# Altium integrated library NXP Semiconductors Standard MOSFETs.IntLib: 477 symbols (part 3 of 14)
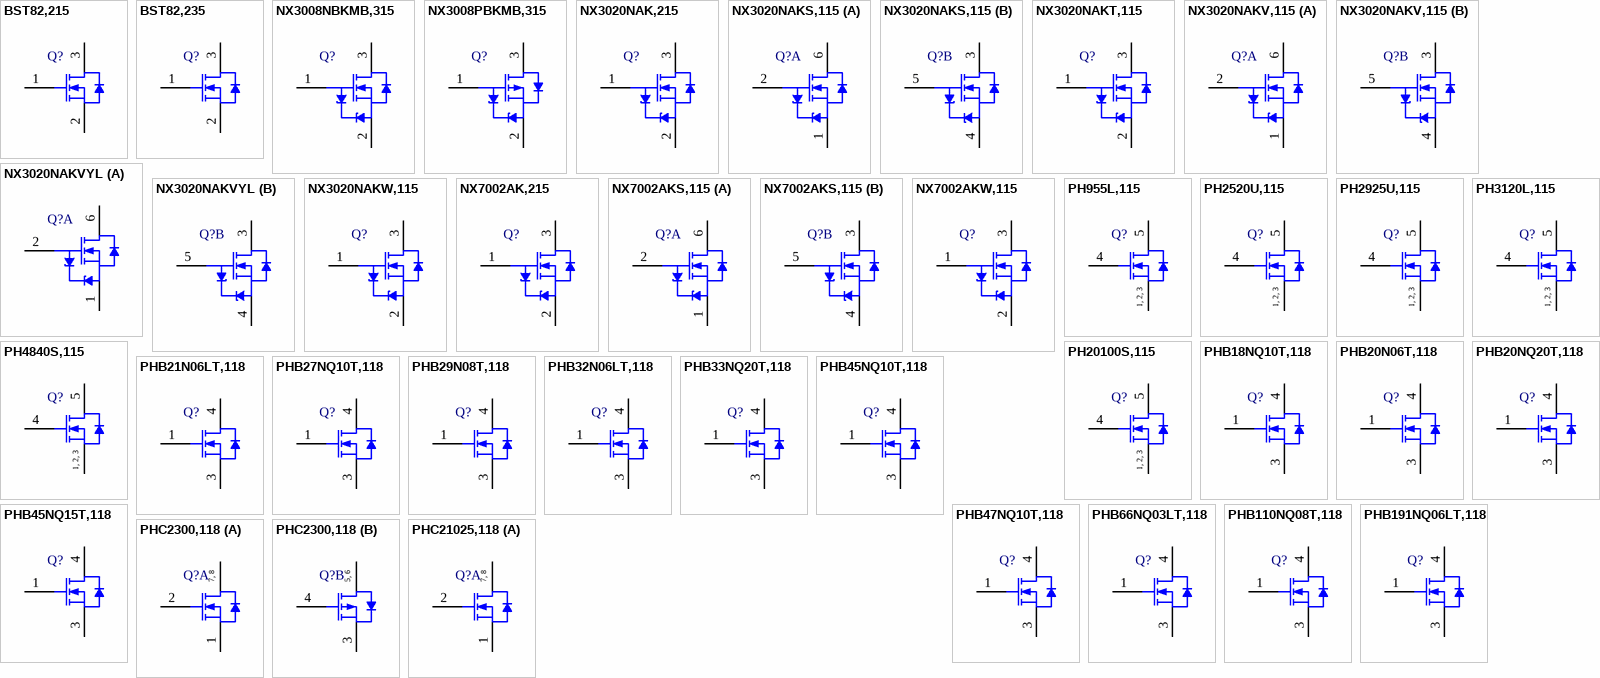
[diagram p14: symbols BST82,215 to PHC21025,118]

## PHB29N08T,118
designator Q?
N-Channel TrenchMOS Standard Level FET, 75 V, 27 A, 3-Pin SOT404, Tape and Reel; Manufacturer: NXP Semiconductors; PartNumber: PHB29N08T,118; Channel Type: N; Ciss [typ] (pF): 810; Coss [typ] (pF): 140; ID [max] (A): 27; Packing: Tape & Reel; Qr [typ] (nC): 65; VDS [max] (V): 75; VGSth [typ] (V): 4; DatasheetVersion: Rev. 03; PackageVersion: 13-02-25, 02/2013; PackageReference: SOT404; PackageDescription: 3-Pin Plastic Single-ended Surface Mounted Package, Body 10 x 9.6 mm, Pitch 2.54 mm; Supplier 1: Digi-Key; Supplier Part Number 1: 568-2190-2-ND; Supplier 2: Digi-Key; Supplier Part Number 2: 568-2190-1-ND; Supplier 3: Digi-Key; Supplier Part Number 3: 568-2190-6-ND; Supplier 4: Mouser; Supplier Part Number 4: 771-PHB29N08T/T3; Mounting Technology: Surface Mount; ComponentLink1Description: Manufacturer URL; ComponentLink1URL: http://www.nxp.com/; ComponentLink2Description: Datasheet; ComponentLink2URL: http://www.nxp.com/documents/data_sheet/PHB29N08T.pdf; ComponentLink3Description: Package Specification; ComponentLink3URL: http://www.nxp.com/documents/outline_drawing/sot404_po.pdf
footprint NXP-SOT404_N (DPAK, 3-Leads, Body 10.3x9.8mm, Pitch 2.54mm, IPC Medium Density)
footprint NXP-SOT404_L (DPAK, 3-Leads, Body 10.3x9.8mm, Pitch 2.54mm, IPC High Density)
footprint NXP-SOT404_M (DPAK, 3-Leads, Body 10.3x9.8mm, Pitch 2.54mm, IPC Low Density)
pins: 1 G "gate", 3 S "source", 4 D "mounting base; connected to drain"

## PHB32N06LT,118
designator Q?
N-Channel TrenchMOS Logic Level FET, 60 V, 34 A, 3-Pin SOT404, Tape and Reel; Manufacturer: NXP Semiconductors; PartNumber: PHB32N06LT,118; Channel Type: N; Ciss [typ] (pF): 920; Coss [typ] (pF): 160; ID [max] (A): 34; Packing: Tape & Reel; Qr [typ] (nC): 70; VDS [max] (V): 60; VGSth [typ] (V): 1.5; DatasheetVersion: Rev. 02; PackageVersion: 13-02-25, 02/2013; PackageReference: SOT404; PackageDescription: 3-Pin Plastic Single-ended Surface Mounted Package, Body 10 x 9.6 mm, Pitch 2.54 mm; Supplier 1: Digi-Key; Supplier Part Number 1: 568-5941-2-ND; Supplier 2: Digi-Key; Supplier Part Number 2: 568-5941-1-ND; Supplier 3: Digi-Key; Supplier Part Number 3: 568-5941-6-ND; Supplier 4: Newark; Supplier Part Number 4: 70R7406; Supplier 5: Mouser; Supplier Part Number 5: 771-PHB32N06LT118; Mounting Technology: Surface Mount; ComponentLink1Description: Manufacturer URL; ComponentLink1URL: http://www.nxp.com/; ComponentLink2Description: Datasheet; ComponentLink2URL: http://www.nxp.com/documents/data_sheet/PHB32N06LT.pdf; ComponentLink3Description: Package Specification; ComponentLink3URL: http://www.nxp.com/documents/outline_drawing/sot404_po.pdf
footprint NXP-SOT404_N (DPAK, 3-Leads, Body 10.3x9.8mm, Pitch 2.54mm, IPC Medium Density)
footprint NXP-SOT404_L (DPAK, 3-Leads, Body 10.3x9.8mm, Pitch 2.54mm, IPC High Density)
footprint NXP-SOT404_M (DPAK, 3-Leads, Body 10.3x9.8mm, Pitch 2.54mm, IPC Low Density)
pins: 1 G "gate", 3 S "source", 4 D "mounting base; connected to drain"

## PHB33NQ20T,118
designator Q?
N-Channel TrenchMOS Standard Level FET, 200 V, 32.7 A, 3-Pin SOT404, Tape and Reel; Manufacturer: NXP Semiconductors; PartNumber: PHB33NQ20T,118; Channel Type: N; Ciss [typ] (pF): 1870; Coss [typ] (pF): 230; ID [max] (A): 32.7; Packing: Tape & Reel; Qr [typ] (nC): 645; VDS [max] (V): 200; VGSth [typ] (V): 3; DatasheetVersion: Rev. 02; PackageVersion: 13-02-25, 02/2013; PackageReference: SOT404; PackageDescription: 3-Pin Plastic Single-ended Surface Mounted Package, Body 10 x 9.6 mm, Pitch 2.54 mm; Supplier 1: Digi-Key; Supplier Part Number 1: 568-5942-2-ND; Supplier 2: Digi-Key; Supplier Part Number 2: 568-5942-1-ND; Supplier 3: Digi-Key; Supplier Part Number 3: 568-5942-6-ND; Supplier 4: Mouser; Supplier Part Number 4: 771-PHB33NQ20T118; Mounting Technology: Surface Mount; ComponentLink1Description: Manufacturer URL; ComponentLink1URL: http://www.nxp.com/; ComponentLink2Description: Datasheet; ComponentLink2URL: http://www.nxp.com/documents/data_sheet/PHB33NQ20T.pdf; ComponentLink3Description: Package Specification; ComponentLink3URL: http://www.nxp.com/documents/outline_drawing/sot404_po.pdf
footprint NXP-SOT404_N (DPAK, 3-Leads, Body 10.3x9.8mm, Pitch 2.54mm, IPC Medium Density)
footprint NXP-SOT404_L (DPAK, 3-Leads, Body 10.3x9.8mm, Pitch 2.54mm, IPC High Density)
footprint NXP-SOT404_M (DPAK, 3-Leads, Body 10.3x9.8mm, Pitch 2.54mm, IPC Low Density)
pins: 1 G "gate", 3 S "source", 4 D "mounting base; connected to drain"

## PHB45NQ10T,118
designator Q?
N-Channel TrenchMOS Standard Level FET, 100 V, 47 A, 3-Pin SOT404, Tape and Reel; Manufacturer: NXP Semiconductors; PartNumber: PHB45NQ10T,118; Channel Type: N; Ciss [typ] (pF): 2600; Coss [typ] (pF): 340; ID [max] (A): 47; Packing: Tape & Reel; Qr [typ] (nC): 260; VDS [max] (V): 100; VGSth [typ] (V): 3; DatasheetVersion: Rev. 02; PackageVersion: 13-02-25, 02/2013; PackageReference: SOT404; PackageDescription: 3-Pin Plastic Single-ended Surface Mounted Package, Body 10 x 9.6 mm, Pitch 2.54 mm; Supplier 1: Digi-Key; Supplier Part Number 1: 568-5943-2-ND; Supplier 2: Digi-Key; Supplier Part Number 2: 568-5943-1-ND; Supplier 3: Digi-Key; Supplier Part Number 3: 568-5943-6-ND; Supplier 4: Mouser; Supplier Part Number 4: 771-PHB45NQ10T118; Mounting Technology: Surface Mount; ComponentLink1Description: Manufacturer URL; ComponentLink1URL: http://www.nxp.com/; ComponentLink2Description: Datasheet; ComponentLink2URL: http://www.nxp.com/documents/data_sheet/PHB45NQ10T.pdf; ComponentLink3Description: Package Specification; ComponentLink3URL: http://www.nxp.com/documents/outline_drawing/sot404_po.pdf
footprint NXP-SOT404_N (DPAK, 3-Leads, Body 10.3x9.8mm, Pitch 2.54mm, IPC Medium Density)
footprint NXP-SOT404_L (DPAK, 3-Leads, Body 10.3x9.8mm, Pitch 2.54mm, IPC High Density)
footprint NXP-SOT404_M (DPAK, 3-Leads, Body 10.3x9.8mm, Pitch 2.54mm, IPC Low Density)
pins: 1 G "gate", 3 S "source", 4 D "mounting base; connected to drain"

## PHB45NQ15T,118
designator Q?
N-Channel TrenchMOS Standard Level FET, 150 V, 45.1 A, 3-Pin SOT404, Tape and Reel; Manufacturer: NXP Semiconductors; PartNumber: PHB45NQ15T,118; Channel Type: N; Ciss [typ] (pF): 1770; Coss [typ] (pF): 290; ID [max] (A): 45.1; Packing: Tape & Reel; Qr [typ] (nC): 360; VDS [max] (V): 150; VGSth [typ] (V): 3; DatasheetVersion: Rev. 02; PackageVersion: 13-02-25, 02/2013; PackageReference: SOT404; PackageDescription: 3-Pin Plastic Single-ended Surface Mounted Package, Body 10 x 9.6 mm, Pitch 2.54 mm; Supplier 1: Digi-Key; Supplier Part Number 1: 568-2192-2-ND; Supplier 2: Digi-Key; Supplier Part Number 2: 568-2192-1-ND; Supplier 3: Digi-Key; Supplier Part Number 3: 568-2192-6-ND; Supplier 4: Newark; Supplier Part Number 4: 72R6240; Supplier 5: Mouser; Supplier Part Number 5: 771-PHB45NQ15T,118; Mounting Technology: Surface Mount; ComponentLink1Description: Manufacturer URL; ComponentLink1URL: http://www.nxp.com/; ComponentLink2Description: Datasheet; ComponentLink2URL: http://www.nxp.com/documents/data_sheet/PHB45NQ15T.pdf; ComponentLink3Description: Package Specification; ComponentLink3URL: http://www.nxp.com/documents/outline_drawing/sot404_po.pdf
footprint NXP-SOT404_N (DPAK, 3-Leads, Body 10.3x9.8mm, Pitch 2.54mm, IPC Medium Density)
footprint NXP-SOT404_L (DPAK, 3-Leads, Body 10.3x9.8mm, Pitch 2.54mm, IPC High Density)
footprint NXP-SOT404_M (DPAK, 3-Leads, Body 10.3x9.8mm, Pitch 2.54mm, IPC Low Density)
pins: 1 G "gate", 3 S "source", 4 D "mounting base; connected to drain"

## PHB47NQ10T,118
designator Q?
N-Channel TrenchMOS Standard Level FET, 100 V, 47 A, 3-Pin SOT404, Tape and Reel; Manufacturer: NXP Semiconductors; PartNumber: PHB47NQ10T,118; Channel Type: N; Ciss [typ] (pF): 2320; Coss [typ] (pF): 315; ID [max] (A): 47; Packing: Tape & Reel; Qr [typ] (nC): 240; VDS [max] (V): 100; VGSth [typ] (V): 3; DatasheetVersion: Rev. 02; PackageVersion: 13-02-25, 02/2013; PackageReference: SOT404; PackageDescription: 3-Pin Plastic Single-ended Surface Mounted Package, Body 10 x 9.6 mm, Pitch 2.54 mm; Supplier 1: Digi-Key; Supplier Part Number 1: 568-5944-2-ND; Supplier 2: Digi-Key; Supplier Part Number 2: 568-5944-1-ND; Supplier 3: Digi-Key; Supplier Part Number 3: 568-5944-6-ND; Supplier 4: Mouser; Supplier Part Number 4: 771-PHB47NQ10T118; Mounting Technology: Surface Mount; ComponentLink1Description: Manufacturer URL; ComponentLink1URL: http://www.nxp.com/; ComponentLink2Description: Datasheet; ComponentLink2URL: http://www.nxp.com/documents/data_sheet/PHB47NQ10T.pdf; ComponentLink3Description: Package Specification; ComponentLink3URL: http://www.nxp.com/documents/outline_drawing/sot404_po.pdf
footprint NXP-SOT404_N (DPAK, 3-Leads, Body 10.3x9.8mm, Pitch 2.54mm, IPC Medium Density)
footprint NXP-SOT404_L (DPAK, 3-Leads, Body 10.3x9.8mm, Pitch 2.54mm, IPC High Density)
footprint NXP-SOT404_M (DPAK, 3-Leads, Body 10.3x9.8mm, Pitch 2.54mm, IPC Low Density)
pins: 1 G "gate", 3 S "source", 4 D "mounting base; connected to drain"

## PHB66NQ03LT,118
designator Q?
N-Channel TrenchMOS Logic Level FET, 25 V, 3-Pin SOT404, Tape and Reel; Manufacturer: NXP Semiconductors; PartNumber: PHB66NQ03LT,118; Channel Type: N; Ciss [typ] (pF): 860; Coss [typ] (pF): 330; Packing: Tape & Reel; Qr [typ] (nC): 20; VDS [max] (V): 25; VGSth [typ] (V): 1.5; DatasheetVersion: Rev. 07; PackageVersion: 13-02-25, 02/2013; PackageReference: SOT404; PackageDescription: 3-Pin Plastic Single-ended Surface Mounted Package, Body 10 x 9.6 mm, Pitch 2.54 mm; Supplier 1: Digi-Key; Supplier Part Number 1: 568-5945-2-ND; Supplier 2: Digi-Key; Supplier Part Number 2: 568-5945-1-ND; Supplier 3: Digi-Key; Supplier Part Number 3: 568-5945-6-ND; Supplier 4: Mouser; Supplier Part Number 4: 771-PHB66NQ03LT118; Mounting Technology: Surface Mount; ComponentLink1Description: Manufacturer URL; ComponentLink1URL: http://www.nxp.com/; ComponentLink2Description: Datasheet; ComponentLink2URL: http://www.nxp.com/documents/data_sheet/PHB66NQ03LT.pdf; ComponentLink3Description: Package Specification; ComponentLink3URL: http://www.nxp.com/documents/outline_drawing/sot404_po.pdf
footprint NXP-SOT404_N (DPAK, 3-Leads, Body 10.3x9.8mm, Pitch 2.54mm, IPC Medium Density)
footprint NXP-SOT404_L (DPAK, 3-Leads, Body 10.3x9.8mm, Pitch 2.54mm, IPC High Density)
footprint NXP-SOT404_M (DPAK, 3-Leads, Body 10.3x9.8mm, Pitch 2.54mm, IPC Low Density)
pins: 1 G "gate", 3 S "source", 4 D "mounting base; connected to drain"

## PHB110NQ08T,118
designator Q?
N-Channel TrenchMOS Standard Level FET, 75 V, 75 A, 3-Pin SOT404, Tape and Reel; Manufacturer: NXP Semiconductors; PartNumber: PHB110NQ08T,118; Channel Type: N; Ciss [typ] (pF): 4860; Coss [typ] (pF): 840; ID [max] (A): 75; Packing: Tape & Reel; Qr [typ] (nC): 270; VGSth [typ] (V): 3; DatasheetVersion: Rev. 02; PackageVersion: 13-02-25, 02/2013; PackageReference: SOT404; PackageDescription: 3-Pin Plastic Single-ended Surface Mounted Package, Body 10 x 9.6 mm, Pitch 2.54 mm; Supplier 1: Digi-Key; Supplier Part Number 1: 568-6591-2-ND; Supplier 2: Digi-Key; Supplier Part Number 2: 568-6591-1-ND; Supplier 3: Digi-Key; Supplier Part Number 3: 568-6591-6-ND; Supplier 4: Mouser; Supplier Part Number 4: 771-PHB110NQ08T118; VDS [max] (V): 75; Mounting Technology: Surface Mount; ComponentLink1Description: Manufacturer URL; ComponentLink1URL: http://www.nxp.com/; ComponentLink2Description: Datasheet; ComponentLink2URL: http://www.nxp.com/documents/data_sheet/PHB110NQ08T.pdf; ComponentLink3Description: Package Specification; ComponentLink3URL: http://www.nxp.com/documents/outline_drawing/sot404_po.pdf
footprint NXP-SOT404_N (DPAK, 3-Leads, Body 10.3x9.8mm, Pitch 2.54mm, IPC Medium Density)
footprint NXP-SOT404_L (DPAK, 3-Leads, Body 10.3x9.8mm, Pitch 2.54mm, IPC High Density)
footprint NXP-SOT404_M (DPAK, 3-Leads, Body 10.3x9.8mm, Pitch 2.54mm, IPC Low Density)
pins: 1 G "gate", 3 S "source", 4 D "mounting base; connected to drain"

## PHB191NQ06LT,118
designator Q?
N-Channel TrenchMOS Logic Level FET, 55 V, 75 A, 3-Pin SOT404, Tape and Reel; Manufacturer: NXP Semiconductors; PartNumber: PHB191NQ06LT,118; Channel Type: N; Ciss [typ] (pF): 7665; Coss [typ] (pF): 1045; ID [max] (A): 75; Packing: Tape & Reel; Qr [typ] (nC): 171; VDS [max] (V): 55; VGSth [typ] (V): 1.5; DatasheetVersion: Rev. 02; PackageVersion: 13-02-25, 02/2013; PackageReference: SOT404; PackageDescription: 3-Pin Plastic Single-ended Surface Mounted Package, Body 10 x 9.6 mm, Pitch 2.54 mm; Supplier 1: Digi-Key; Supplier Part Number 1: 568-2188-2-ND; Supplier 2: Digi-Key; Supplier Part Number 2: 568-2188-1-ND; Supplier 3: Digi-Key; Supplier Part Number 3: 568-2188-6-ND; Supplier 4: Newark; Supplier Part Number 4: 70R7400; Supplier 5: Mouser; Supplier Part Number 5: 771-PHB191NQ06LT-/T3; Mounting Technology: Surface Mount; ComponentLink1Description: Manufacturer URL; ComponentLink1URL: http://www.nxp.com/; ComponentLink2Description: Datasheet; ComponentLink2URL: http://www.nxp.com/documents/data_sheet/PHB191NQ06LT.pdf; ComponentLink3Description: Package Specification; ComponentLink3URL: http://www.nxp.com/documents/outline_drawing/sot404_po.pdf
footprint NXP-SOT404_N (DPAK, 3-Leads, Body 10.3x9.8mm, Pitch 2.54mm, IPC Medium Density)
footprint NXP-SOT404_L (DPAK, 3-Leads, Body 10.3x9.8mm, Pitch 2.54mm, IPC High Density)
footprint NXP-SOT404_M (DPAK, 3-Leads, Body 10.3x9.8mm, Pitch 2.54mm, IPC Low Density)
pins: 1 G "gate", 3 S "source", 4 D "mounting base; connected to drain"

## PHC2300,118
designator Q?
Dual Complementary N/P-Channel Enhancement Mode MOS Transistor, 300 / -300 V, 0.34 / -0.235 A, 8-Pin SOT96-1, Tape and Reel; Manufacturer: NXP Semiconductors; PartNumber: PHC2300,118; Channel Type: N/P; Coss [typ] (pF): 15; Packing: Tape & Reel; Code_IEC: 76000; DatasheetVersion: Rev. 05; PackageVersion: 03-02-18, 02/2003; PackageReference: SOT96-1; PackageDescription: 8-Pin Plastic Small Outline Package, Body 4.9 x 3.9 mm, Pitch 1.27 mm; Supplier 1: Digi-Key; Supplier Part Number 1: 568-11060-2-ND; Supplier 2: Digi-Key; Supplier Part Number 2: 568-11060-1-ND; Supplier 3: Digi-Key; Supplier Part Number 3: 568-11060-6-ND; Supplier 4: Farnell; Supplier Part Number 4: 1758128RL; Supplier 5: Farnell; Supplier Part Number 5: 1758128; Supplier 6: Farnell; Supplier Part Number 6: 2395542; Supplier 7: Farnell; Supplier Part Number 7: 2371100; Supplier 8: Newark; Supplier Part Number 8: 70R7412; Supplier 9: Newark; Supplier Part Number 9: 79R1982; Supplier 10: Mouser; Supplier Part Number 10: 771-PHC2300118; Mounting Technology: Surface Mount; Code_JEDEC: MS-012; ComponentLink1Description: Manufacturer URL; ComponentLink1URL: http://www.nxp.com/; ComponentLink2Description: Datasheet; ComponentLink2URL: http://www.nxp.com/documents/data_sheet/PHC2300.pdf; ComponentLink3Description: Package Specification; ComponentLink3URL: http://www.nxp.com/documents/outline_drawing/sot096-1_po.pdf
footprint NXP-SOT96-1_N (SOIC, 8-Leads, Body 5x4mm, Pitch 1.27mm, IPC Medium Density)
footprint NXP-SOT96-1_L (SOIC, 8-Leads, Body 5x4mm, Pitch 1.27mm, IPC High Density)
footprint NXP-SOT96-1_M (SOIC, 8-Leads, Body 5x4mm, Pitch 1.27mm, IPC Low Density)
part A pins: 1 S1 "source1", 2 G1 "gate1", 7 D1 "drain1", 8 D1 "drain1"
part B pins: 3 S2 "source2", 4 G2 "gate2", 5 D2 "drain2", 6 D2 "drain2"
part A text: 7, 8
part B text: 5, 6

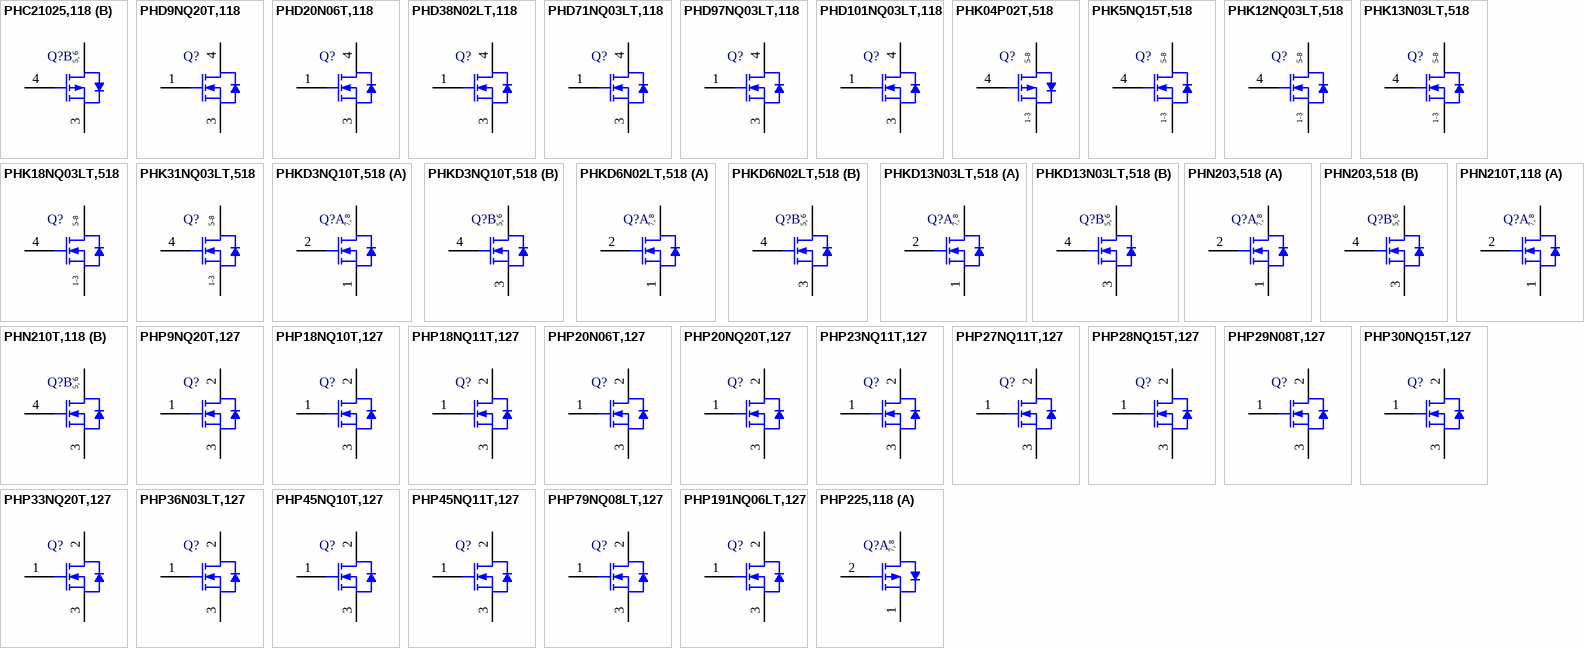
[diagram p2: symbols PHC21025,118 to PHP225,118]

## PHC21025,118
designator Q?
Dual Complementary N/P-Channel Intermediate Level FET, 30 / -30 V, 3.5 / -2.3 A, 8-Pin SOT96-1, Tape and Reel; Manufacturer: NXP Semiconductors; PartNumber: PHC21025,118; Channel Type: N/P; Ciss [typ] (pF): 250; Coss [typ] (pF): 140; Packing: Tape & Reel; Code_IEC: 76000; DatasheetVersion: Rev. 04; PackageVersion: 03-02-18, 02/2003; PackageReference: SOT96-1; PackageDescription: 8-Pin Plastic Small Outline Package, Body 4.9 x 3.9 mm, Pitch 1.27 mm; Supplier 1: Digi-Key; Supplier Part Number 1: 568-11059-1-ND; Supplier 2: Digi-Key; Supplier Part Number 2: 568-11059-6-ND; Supplier 3: Digi-Key; Supplier Part Number 3: 568-11059-2-ND; Supplier 4: Farnell; Supplier Part Number 4: 1758127; Supplier 5: Farnell; Supplier Part Number 5: 1758127RL; Supplier 6: Farnell; Supplier Part Number 6: 2395541; Supplier 7: Newark; Supplier Part Number 7: 79R1981; Supplier 8: Newark; Supplier Part Number 8: 70R7411; Supplier 9: Mouser; Supplier Part Number 9: 771-PHC21025118; Mounting Technology: Surface Mount; Code_JEDEC: MS-012; ComponentLink1Description: Manufacturer URL; ComponentLink1URL: http://www.nxp.com/; ComponentLink2Description: Datasheet; ComponentLink2URL: http://www.nxp.com/documents/data_sheet/PHC21025.pdf; ComponentLink3Description: Package Specification; ComponentLink3URL: http://www.nxp.com/documents/outline_drawing/sot096-1_po.pdf
footprint NXP-SOT96-1_N (SOIC, 8-Leads, Body 5x4mm, Pitch 1.27mm, IPC Medium Density)
footprint NXP-SOT96-1_L (SOIC, 8-Leads, Body 5x4mm, Pitch 1.27mm, IPC High Density)
footprint NXP-SOT96-1_M (SOIC, 8-Leads, Body 5x4mm, Pitch 1.27mm, IPC Low Density)
part A pins: 1 S1 "source1", 2 G1 "gate1", 7 D1 "drain1", 8 D1 "drain1"
part B pins: 3 S2 "source2", 4 G2 "gate2", 5 D2 "drain2", 6 D2 "drain2"
part A text: 7, 8
part B text: 5, 6

## PHD9NQ20T,118
designator Q?
N-Channel TrenchMOS Standard Level FET, 200 V, 8.7 A, 3-Pin SOT428, Tape and Reel; Manufacturer: NXP Semiconductors; PartNumber: PHD9NQ20T,118; Channel Type: N; Ciss [typ] (pF): 959; Coss [typ] (pF): 93; ID [max] (A): 8.7; Packing: Tape & Reel; Qr [typ] (nC): 500; VDS [max] (V): 200; VGSth [typ] (V): 3; DatasheetVersion: Rev. 03; PackageVersion: 14-06-10, 06/2014; PackageReference: SOT428; PackageDescription: 3-Pin Plastic Single-ended Surface Mounted Package, Body 6.1 x 6.6 mm, Pitch 2.285 mm; Supplier 1: Digi-Key; Supplier Part Number 1: PHD9NQ20T,118-ND; Supplier 2: Mouser; Supplier Part Number 2: 771-PHD9NQ20T118; Mounting Technology: Surface Mount; Code_JEITA: SC-63; Code_JEDEC: TO-252; ComponentLink1Description: Manufacturer URL; ComponentLink1URL: http://www.nxp.com/; ComponentLink2Description: Datasheet; ComponentLink2URL: http://www.nxp.com/documents/data_sheet/PHD9NQ20T.pdf; ComponentLink3Description: Package Specification; ComponentLink3URL: http://www.nxp.com/documents/outline_drawing/sot428_po.pdf
footprint NXP-SOT428_N (DPAK, 3-Leads, Body 6.75x6.22mm, Pitch 2.29mm, IPC Medium Density)
footprint NXP-SOT428_L (DPAK, 3-Leads, Body 6.75x6.22mm, Pitch 2.29mm, IPC High Density)
footprint NXP-SOT428_M (DPAK, 3-Leads, Body 6.75x6.22mm, Pitch 2.29mm, IPC Low Density)
pins: 1 G "gate", 3 S "source", 4 D "mounting base; connected to drain"

## PHD20N06T,118
designator Q?
N-Channel TrenchMOS Standard Level FET, 55 V, 18 A, 3-Pin SOT428, Tape and Reel; Manufacturer: NXP Semiconductors; PartNumber: PHD20N06T,118; Channel Type: N; Ciss [typ] (pF): 316; Coss [typ] (pF): 92; ID [max] (A): 18; Packing: Tape & Reel; Qr [typ] (nC): 120; VDS [max] (V): 55; VGSth [typ] (V): 3; DatasheetVersion: Rev. 02; PackageVersion: 14-06-10, 06/2014; PackageReference: SOT428; PackageDescription: 3-Pin Plastic Single-ended Surface Mounted Package, Body 6.1 x 6.6 mm, Pitch 2.285 mm; Supplier 1: Digi-Key; Supplier Part Number 1: PHD20N06T,118-ND; Supplier 2: Mouser; Supplier Part Number 2: 771-PHD20N06T118; Mounting Technology: Surface Mount; Code_JEITA: SC-63; Code_JEDEC: TO-252; ComponentLink1Description: Manufacturer URL; ComponentLink1URL: http://www.nxp.com/; ComponentLink2Description: Datasheet; ComponentLink2URL: http://www.nxp.com/documents/data_sheet/PHD20N06T.pdf; ComponentLink3Description: Package Specification; ComponentLink3URL: http://www.nxp.com/documents/outline_drawing/sot428_po.pdf
footprint NXP-SOT428_N (DPAK, 3-Leads, Body 6.75x6.22mm, Pitch 2.29mm, IPC Medium Density)
footprint NXP-SOT428_L (DPAK, 3-Leads, Body 6.75x6.22mm, Pitch 2.29mm, IPC High Density)
footprint NXP-SOT428_M (DPAK, 3-Leads, Body 6.75x6.22mm, Pitch 2.29mm, IPC Low Density)
pins: 1 G "gate", 3 S "source", 4 D "mounting base; connected to drain"

## PHD38N02LT,118
designator Q?
N-Channel TrenchMOS Logic Level FET, 20 V, 44.7 A, 3-Pin SOT428, Tape and Reel; Manufacturer: NXP Semiconductors; PartNumber: PHD38N02LT,118; Channel Type: N; Ciss [typ] (pF): 800; Coss [typ] (pF): 260; ID [max] (A): 44.7; Packing: Tape & Reel; VDS [max] (V): 20; VGSth [typ] (V): 1; DatasheetVersion: Rev. 02; PackageVersion: 14-06-10, 06/2014; PackageReference: SOT428; PackageDescription: 3-Pin Plastic Single-ended Surface Mounted Package, Body 6.1 x 6.6 mm, Pitch 2.285 mm; Supplier 1: Digi-Key; Supplier Part Number 1: PHD38N02LT,118-ND; Supplier 2: Newark; Supplier Part Number 2: 70R7423; Supplier 3: Mouser; Supplier Part Number 3: 771-PHD38N02LT118; Mounting Technology: Surface Mount; Code_JEITA: SC-63; Code_JEDEC: TO-252; ComponentLink1Description: Manufacturer URL; ComponentLink1URL: http://www.nxp.com/; ComponentLink2Description: Datasheet; ComponentLink2URL: http://www.nxp.com/documents/data_sheet/PHD38N02LT.pdf; ComponentLink3Description: Package Specification; ComponentLink3URL: http://www.nxp.com/documents/outline_drawing/sot428_po.pdf
footprint NXP-SOT428_N (DPAK, 3-Leads, Body 6.75x6.22mm, Pitch 2.29mm, IPC Medium Density)
footprint NXP-SOT428_L (DPAK, 3-Leads, Body 6.75x6.22mm, Pitch 2.29mm, IPC High Density)
footprint NXP-SOT428_M (DPAK, 3-Leads, Body 6.75x6.22mm, Pitch 2.29mm, IPC Low Density)
pins: 1 G "gate", 3 S "source", 4 D "mounting base; connected to drain"

## PHD71NQ03LT,118
designator Q?
N-Channel TrenchMOS Logic Level FET, 30 V, 75 A, 3-Pin SOT428, Tape and Reel; Manufacturer: NXP Semiconductors; PartNumber: PHD71NQ03LT,118; Channel Type: N; Ciss [typ] (pF): 1220; Coss [typ] (pF): 330; ID [max] (A): 75; Packing: Tape & Reel; Qr [typ] (nC): 20; VDS [max] (V): 30; VGSth [typ] (V): 1.9; DatasheetVersion: Rev. 02; PackageVersion: 14-06-10, 06/2014; PackageReference: SOT428; PackageDescription: 3-Pin Plastic Single-ended Surface Mounted Package, Body 6.1 x 6.6 mm, Pitch 2.285 mm; Supplier 1: Digi-Key; Supplier Part Number 1: 568-11061-2-ND; Supplier 2: Digi-Key; Supplier Part Number 2: 568-11061-1-ND; Supplier 3: Digi-Key; Supplier Part Number 3: 568-11061-6-ND; Supplier 4: Newark; Supplier Part Number 4: 79R1986; Supplier 5: Mouser; Supplier Part Number 5: 771-PHD71NQ03LT118; Mounting Technology: Surface Mount; Code_JEITA: SC-63; Code_JEDEC: TO-252; ComponentLink1Description: Manufacturer URL; ComponentLink1URL: http://www.nxp.com/; ComponentLink2Description: Datasheet; ComponentLink2URL: http://www.nxp.com/documents/data_sheet/PHD71NQ03LT.pdf; ComponentLink3Description: Package Specification; ComponentLink3URL: http://www.nxp.com/documents/outline_drawing/sot428_po.pdf
footprint NXP-SOT428_N (DPAK, 3-Leads, Body 6.75x6.22mm, Pitch 2.29mm, IPC Medium Density)
footprint NXP-SOT428_L (DPAK, 3-Leads, Body 6.75x6.22mm, Pitch 2.29mm, IPC High Density)
footprint NXP-SOT428_M (DPAK, 3-Leads, Body 6.75x6.22mm, Pitch 2.29mm, IPC Low Density)
pins: 1 G "gate", 3 S "source", 4 D "mounting base; connected to drain"

## PHD97NQ03LT,118
designator Q?
N-Channel TrenchMOS Logic Level FET, 25 V, 75 A, 3-Pin SOT428, Tape and Reel; Manufacturer: NXP Semiconductors; PartNumber: PHD97NQ03LT,118; Channel Type: N; Coss [typ] (pF): 380; ID [max] (A): 75; Packing: Tape & Reel; Qr [typ] (nC): 14; VDS [max] (V): 25; VGSth [typ] (V): 1.7; DatasheetVersion: Rev. 01; PackageVersion: 14-06-10, 06/2014; PackageReference: SOT428; PackageDescription: 3-Pin Plastic Single-ended Surface Mounted Package, Body 6.1 x 6.6 mm, Pitch 2.285 mm; Supplier 1: Digi-Key; Supplier Part Number 1: PHD97NQ03LT,118-ND; Supplier 2: Mouser; Supplier Part Number 2: 771-PHD97NQ03LT,118; Mounting Technology: Surface Mount; Code_JEITA: SC-63; Code_JEDEC: TO-252; ComponentLink1Description: Manufacturer URL; ComponentLink1URL: http://www.nxp.com/; ComponentLink2Description: Datasheet; ComponentLink2URL: http://www.nxp.com/documents/data_sheet/PHD97NQ03LT.pdf; ComponentLink3Description: Package Specification; ComponentLink3URL: http://www.nxp.com/documents/outline_drawing/sot428_po.pdf
footprint NXP-SOT428_N (DPAK, 3-Leads, Body 6.75x6.22mm, Pitch 2.29mm, IPC Medium Density)
footprint NXP-SOT428_L (DPAK, 3-Leads, Body 6.75x6.22mm, Pitch 2.29mm, IPC High Density)
footprint NXP-SOT428_M (DPAK, 3-Leads, Body 6.75x6.22mm, Pitch 2.29mm, IPC Low Density)
pins: 1 G "gate", 3 S "source", 4 D "mounting base; connected to drain"

## PHD101NQ03LT,118
designator Q?
N-Channel TrenchMOS Logic Level FET, 30 V, 75 A, 3-Pin SOT428, Tape and Reel; Manufacturer: NXP Semiconductors; PartNumber: PHD101NQ03LT,118; Channel Type: N; Ciss [typ] (pF): 2180; Coss [typ] (pF): 600; ID [max] (A): 75; Packing: Tape & Reel; Qr [typ] (nC): 33; VDS [max] (V): 30; VGSth [typ] (V): 1.9; DatasheetVersion: Rev. 5; PackageVersion: 14-06-10, 06/2014; PackageReference: SOT428; PackageDescription: 3-Pin Plastic Single-ended Surface Mounted Package, Body 6.1 x 6.6 mm, Pitch 2.285 mm; Supplier 1: Digi-Key; Supplier Part Number 1: PHD101NQ03LT,118-ND; Supplier 2: Newark; Supplier Part Number 2: 79R1983; Supplier 3: Mouser; Supplier Part Number 3: 771-PHD101NQ03LT118; Mounting Technology: Surface Mount; Code_JEITA: SC-63; Code_JEDEC: TO-252; ComponentLink1Description: Manufacturer URL; ComponentLink1URL: http://www.nxp.com/; ComponentLink2Description: Datasheet; ComponentLink2URL: http://www.nxp.com/documents/data_sheet/PHD101NQ03LT.pdf; ComponentLink3Description: Package Specification; ComponentLink3URL: http://www.nxp.com/documents/outline_drawing/sot428_po.pdf
footprint NXP-SOT428_N (DPAK, 3-Leads, Body 6.75x6.22mm, Pitch 2.29mm, IPC Medium Density)
footprint NXP-SOT428_L (DPAK, 3-Leads, Body 6.75x6.22mm, Pitch 2.29mm, IPC High Density)
footprint NXP-SOT428_M (DPAK, 3-Leads, Body 6.75x6.22mm, Pitch 2.29mm, IPC Low Density)
pins: 1 G "gate", 3 S "source", 4 D "mounting base; connected to drain"

## PHK04P02T,518
designator Q?
P-Channel Vertical D-MOS Logic Level FET, -16 V, -4.66 A, 8-Pin SOT96-1, Reel; Manufacturer: NXP Semiconductors; PartNumber: PHK04P02T,518; Channel Type: P; Ciss [typ] (pF): 528; Coss [typ] (pF): 200; Qr [typ] (nC): 69; VGSth [typ] (V): -0.6; Code_IEC: 76000; DatasheetVersion: Rev. 02; PackageVersion: 03-02-18, 02/2003; PackageReference: SOT96-1; PackageDescription: 8-Pin Plastic Small Outline Package, Body 4.9 x 3.9 mm, Pitch 1.27 mm; Supplier 1: Digi-Key; Supplier Part Number 1: PHK04P02T,518-ND; Supplier 2: Mouser; Supplier Part Number 2: 771-PHK04P02T518; ID [max] (A): -4.66; Packing: Reel; VDS [max] (V): -16; Mounting Technology: Surface Mount; Code_JEDEC: MS-012; ComponentLink1Description: Manufacturer URL; ComponentLink1URL: http://www.nxp.com/; ComponentLink2Description: Datasheet; ComponentLink2URL: http://www.nxp.com/documents/data_sheet/PHK04P02T.pdf; ComponentLink3Description: Package Specification; ComponentLink3URL: http://www.nxp.com/documents/outline_drawing/sot096-1_po.pdf
footprint NXP-SOT96-1_N (SOIC, 8-Leads, Body 5x4mm, Pitch 1.27mm, IPC Medium Density)
footprint NXP-SOT96-1_L (SOIC, 8-Leads, Body 5x4mm, Pitch 1.27mm, IPC High Density)
footprint NXP-SOT96-1_M (SOIC, 8-Leads, Body 5x4mm, Pitch 1.27mm, IPC Low Density)
pins: 1 S "source", 2 S "source", 3 S "source", 4 G "gate", 5 D "drain", 6 D "drain", 7 D "drain", 8 D "drain"
text: 5-8; 1-3

## PHK5NQ15T,518
designator Q?
N-Channel TrenchMOS Standard Level FET, 150 V, 5 A, 8-Pin SOT96-1, Reel; Manufacturer: NXP Semiconductors; PartNumber: PHK5NQ15T,518; Channel Type: N; Ciss [typ] (pF): 1150; Coss [typ] (pF): 187; ID [max] (A): 5; Qr [typ] (nC): 162; VDS [max] (V): 150; VGSth [typ] (V): 3; Code_IEC: 76000; PackageVersion: 03-02-18, 02/2003; PackageReference: SOT96-1; PackageDescription: 8-Pin Plastic Small Outline Package, Body 4.9 x 3.9 mm, Pitch 1.27 mm; Supplier 1: Digi-Key; Supplier Part Number 1: PHK5NQ15T,518-ND; Supplier 2: Mouser; Supplier Part Number 2: 771-PHK5NQ15T518; Packing: Reel; Mounting Technology: Surface Mount; Code_JEDEC: MS-012; ComponentLink1Description: Manufacturer URL; ComponentLink1URL: http://www.nxp.com/; ComponentLink2Description: Datasheet; ComponentLink2URL: http://www.nxp.com/documents/data_sheet/PHK5NQ15T.pdf; ComponentLink3Description: Package Specification; ComponentLink3URL: http://www.nxp.com/documents/outline_drawing/sot096-1_po.pdf
footprint NXP-SOT96-1_N (SOIC, 8-Leads, Body 5x4mm, Pitch 1.27mm, IPC Medium Density)
footprint NXP-SOT96-1_L (SOIC, 8-Leads, Body 5x4mm, Pitch 1.27mm, IPC High Density)
footprint NXP-SOT96-1_M (SOIC, 8-Leads, Body 5x4mm, Pitch 1.27mm, IPC Low Density)
pins: 1 S "source", 2 S "source", 3 S "source", 4 G "gate", 5 D "drain", 6 D "drain", 7 D "drain", 8 D "drain"
text: 5-8; 1-3

## PHK12NQ03LT,518
designator Q?
N-Channel TrenchMOS(TM) Logic Level FET, 30 V, 11.8 A, 8-Pin SOT96-1, Reel; Manufacturer: NXP Semiconductors; PartNumber: PHK12NQ03LT,518; Channel Type: N; Ciss [typ] (pF): 1335; Coss [typ] (pF): 391; ID [max] (A): 11.8; VDS [max] (V): 30; Code_IEC: 76000; DatasheetVersion: Rev. 02; PackageVersion: 03-02-18, 02/2003; PackageReference: SOT96-1; PackageDescription: 8-Pin Plastic Small Outline Package, Body 4.9 x 3.9 mm, Pitch 1.27 mm; Supplier 1: Digi-Key; Supplier Part Number 1: PHK12NQ03LT,518-ND; Supplier 2: Newark; Supplier Part Number 2: 79R1989; Supplier 3: Mouser; Supplier Part Number 3: 771-PHK12NQ03LT518; Packing: Reel; Mounting Technology: Surface Mount; Code_JEDEC: MS-012; ComponentLink1Description: Manufacturer URL; ComponentLink1URL: http://www.nxp.com/; ComponentLink2Description: Datasheet; ComponentLink2URL: http://www.nxp.com/documents/data_sheet/PHK12NQ03LT.pdf; ComponentLink3Description: Package Specification; ComponentLink3URL: http://www.nxp.com/documents/outline_drawing/sot096-1_po.pdf
footprint NXP-SOT96-1_N (SOIC, 8-Leads, Body 5x4mm, Pitch 1.27mm, IPC Medium Density)
footprint NXP-SOT96-1_L (SOIC, 8-Leads, Body 5x4mm, Pitch 1.27mm, IPC High Density)
footprint NXP-SOT96-1_M (SOIC, 8-Leads, Body 5x4mm, Pitch 1.27mm, IPC Low Density)
pins: 1 S "source", 2 S "source", 3 S "source", 4 G "gate", 5 D "drain", 6 D "drain", 7 D "drain", 8 D "drain"
text: 5-8; 1-3

## PHK13N03LT,518
designator Q?
N-Channel TrenchMOS Logic Level FET, 30 V, 13.8 A, 8-Pin SOT96-1, Reel; Manufacturer: NXP Semiconductors; PartNumber: PHK13N03LT,518; Channel Type: N; Ciss [typ] (pF): 752; Coss [typ] (pF): 200; ID [max] (A): 13.8; Qr [typ] (nC): 5; VDS [max] (V): 30; VGSth [typ] (V): 1.5; Code_IEC: 76000; DatasheetVersion: Rev. 02; PackageVersion: 03-02-18, 02/2003; PackageReference: SOT96-1; PackageDescription: 8-Pin Plastic Small Outline Package, Body 4.9 x 3.9 mm, Pitch 1.27 mm; Supplier 1: Digi-Key; Supplier Part Number 1: PHK13N03LT,518-ND; Supplier 2: Mouser; Supplier Part Number 2: 771-PHK13N03LT518; Packing: Reel; Mounting Technology: Surface Mount; Code_JEDEC: MS-012; ComponentLink1Description: Manufacturer URL; ComponentLink1URL: http://www.nxp.com/; ComponentLink2Description: Datasheet; ComponentLink2URL: http://www.nxp.com/documents/data_sheet/PHK13N03LT.pdf; ComponentLink3Description: Package Specification; ComponentLink3URL: http://www.nxp.com/documents/outline_drawing/sot096-1_po.pdf
footprint NXP-SOT96-1_N (SOIC, 8-Leads, Body 5x4mm, Pitch 1.27mm, IPC Medium Density)
footprint NXP-SOT96-1_L (SOIC, 8-Leads, Body 5x4mm, Pitch 1.27mm, IPC High Density)
footprint NXP-SOT96-1_M (SOIC, 8-Leads, Body 5x4mm, Pitch 1.27mm, IPC Low Density)
pins: 1 S "source", 2 S "source", 3 S "source", 4 G "gate", 5 D "drain", 6 D "drain", 7 D "drain", 8 D "drain"
text: 5-8; 1-3

## PHK18NQ03LT,518
designator Q?
N-Channel TrenchMOS Logic Level FET, 30 V, 20.3 A, 8-Pin SOT96-1, Reel; Manufacturer: NXP Semiconductors; PartNumber: PHK18NQ03LT,518; Channel Type: N; Coss [typ] (pF): 290; ID [max] (A): 20.3; Qr [typ] (nC): 14; VDS [max] (V): 30; VGSth [typ] (V): 1.7; Code_IEC: 76000; DatasheetVersion: Rev. 03; PackageVersion: 03-02-18, 02/2003; PackageReference: SOT96-1; PackageDescription: 8-Pin Plastic Small Outline Package, Body 4.9 x 3.9 mm, Pitch 1.27 mm; Supplier 1: Digi-Key; Supplier Part Number 1: PHK18NQ03LT,518-ND; Supplier 2: Mouser; Supplier Part Number 2: 771-PHK18NQ03LT518; Packing: Reel; Mounting Technology: Surface Mount; Code_JEDEC: MS-012; ComponentLink1Description: Manufacturer URL; ComponentLink1URL: http://www.nxp.com/; ComponentLink2Description: Datasheet; ComponentLink2URL: http://www.nxp.com/documents/data_sheet/PHK18NQ03LT.pdf; ComponentLink3Description: Package Specification; ComponentLink3URL: http://www.nxp.com/documents/outline_drawing/sot096-1_po.pdf
footprint NXP-SOT96-1_N (SOIC, 8-Leads, Body 5x4mm, Pitch 1.27mm, IPC Medium Density)
footprint NXP-SOT96-1_L (SOIC, 8-Leads, Body 5x4mm, Pitch 1.27mm, IPC High Density)
footprint NXP-SOT96-1_M (SOIC, 8-Leads, Body 5x4mm, Pitch 1.27mm, IPC Low Density)
pins: 1 S "source", 2 S "source", 3 S "source", 4 G "gate", 5 D "drain", 6 D "drain", 7 D "drain", 8 D "drain"
text: 5-8; 1-3

## PHK31NQ03LT,518
designator Q?
N-Channel TrenchMOS Logic Level FET, 30 V, 30.4 A, 8-Pin SOT96-1, Reel; Manufacturer: NXP Semiconductors; PartNumber: PHK31NQ03LT,518; Channel Type: N; Coss [typ] (pF): 840; ID [max] (A): 30.4; Qr [typ] (nC): 30; VGSth [typ] (V): 1.7; Code_IEC: 76000; DatasheetVersion: Rev. 3; PackageVersion: 03-02-18, 02/2003; PackageReference: SOT96-1; PackageDescription: 8-Pin Plastic Small Outline Package, Body 4.9 x 3.9 mm, Pitch 1.27 mm; Supplier 1: Digi-Key; Supplier Part Number 1: PHK31NQ03LT,518-ND; Supplier 2: Mouser; Supplier Part Number 2: 771-PHK31NQ03LT518; Packing: Reel; VDS [max] (V): 30; Mounting Technology: Surface Mount; Code_JEDEC: MS-012; ComponentLink1Description: Manufacturer URL; ComponentLink1URL: http://www.nxp.com/; ComponentLink2Description: Datasheet; ComponentLink2URL: http://www.nxp.com/documents/data_sheet/PHK31NQ03LT.pdf; ComponentLink3Description: Package Specification; ComponentLink3URL: http://www.nxp.com/documents/outline_drawing/sot096-1_po.pdf
footprint NXP-SOT96-1_N (SOIC, 8-Leads, Body 5x4mm, Pitch 1.27mm, IPC Medium Density)
footprint NXP-SOT96-1_L (SOIC, 8-Leads, Body 5x4mm, Pitch 1.27mm, IPC High Density)
footprint NXP-SOT96-1_M (SOIC, 8-Leads, Body 5x4mm, Pitch 1.27mm, IPC Low Density)
pins: 1 S "source", 2 S "source", 3 S "source", 4 G "gate", 5 D "drain", 6 D "drain", 7 D "drain", 8 D "drain"
text: 5-8; 1-3

## PHKD3NQ10T,518
designator Q?
Dual N-Channel TrenchMOS Standard Level FET, 100 V, 8-Pin SOT96-1, Reel; Manufacturer: NXP Semiconductors; PartNumber: PHKD3NQ10T,518; Channel Type: N; Ciss [typ] (pF): 633; Coss [typ] (pF): 103; Qr [typ] (nC): 135; VDS [max] (V): 100; VGSth [typ] (V): 3; Code_IEC: 76000; DatasheetVersion: Rev. 02; PackageVersion: 03-02-18, 02/2003; PackageReference: SOT96-1; PackageDescription: 8-Pin Plastic Small Outline Package, Body 4.9 x 3.9 mm, Pitch 1.27 mm; Supplier 1: Digi-Key; Supplier Part Number 1: PHKD3NQ10T,518-ND; Supplier 2: Mouser; Supplier Part Number 2: 771-PHKD3NQ10T-518; Packing: Reel; Mounting Technology: Surface Mount; Code_JEDEC: MS-012; ComponentLink1Description: Manufacturer URL; ComponentLink1URL: http://www.nxp.com/; ComponentLink2Description: Datasheet; ComponentLink2URL: http://www.nxp.com/documents/data_sheet/PHKD3NQ10T.pdf; ComponentLink3Description: Package Specification; ComponentLink3URL: http://www.nxp.com/documents/outline_drawing/sot096-1_po.pdf
footprint NXP-SOT96-1_N (SOIC, 8-Leads, Body 5x4mm, Pitch 1.27mm, IPC Medium Density)
footprint NXP-SOT96-1_L (SOIC, 8-Leads, Body 5x4mm, Pitch 1.27mm, IPC High Density)
footprint NXP-SOT96-1_M (SOIC, 8-Leads, Body 5x4mm, Pitch 1.27mm, IPC Low Density)
part A pins: 1 S1 "source1", 2 G1 "gate1", 7 D1 "drain1", 8 D1 "drain1"
part B pins: 3 S2 "source2", 4 G2 "gate2", 5 D2 "drain2", 6 D2 "drain2"
part A text: 7, 8
part B text: 5, 6

## PHKD6N02LT,518
designator Q?
Dual N-Channel TrenchMOS Logic Level FET, 20 V, 10.9 A, 8-Pin SOT96-1, Reel; Manufacturer: NXP Semiconductors; PartNumber: PHKD6N02LT,518; Channel Type: N; Ciss [typ] (pF): 950; Coss [typ] (pF): 355; ID [max] (A): 10.9; Qr [typ] (nC): 7; VDS [max] (V): 20; Code_IEC: 76000; DatasheetVersion: Rev. 04; PackageVersion: 03-02-18, 02/2003; PackageReference: SOT96-1; PackageDescription: 8-Pin Plastic Small Outline Package, Body 4.9 x 3.9 mm, Pitch 1.27 mm; Supplier 1: Digi-Key; Supplier Part Number 1: PHKD6N02LT,518-ND; Supplier 2: Newark; Supplier Part Number 2: 79R1988; Supplier 3: Newark; Supplier Part Number 3: 70R7439; Supplier 4: Mouser; Supplier Part Number 4: 771-PHKD6N02LT518; Packing: Reel; Mounting Technology: Surface Mount; Code_JEDEC: MS-012; ComponentLink1Description: Manufacturer URL; ComponentLink1URL: http://www.nxp.com/; ComponentLink2Description: Datasheet; ComponentLink2URL: http://www.nxp.com/documents/data_sheet/PHKD6N02LT.pdf; ComponentLink3Description: Package Specification; ComponentLink3URL: http://www.nxp.com/documents/outline_drawing/sot096-1_po.pdf
footprint NXP-SOT96-1_N (SOIC, 8-Leads, Body 5x4mm, Pitch 1.27mm, IPC Medium Density)
footprint NXP-SOT96-1_L (SOIC, 8-Leads, Body 5x4mm, Pitch 1.27mm, IPC High Density)
footprint NXP-SOT96-1_M (SOIC, 8-Leads, Body 5x4mm, Pitch 1.27mm, IPC Low Density)
part A pins: 1 S1 "source1", 2 G1 "gate1", 7 D1 "drain1", 8 D1 "drain1"
part B pins: 3 S2 "source2", 4 G2 "gate2", 5 D2 "drain2", 6 D2 "drain2"
part A text: 7, 8
part B text: 5, 6

## PHKD13N03LT,518
designator Q?
Dual N-Channel TrenchMOS Logic Level FET, 30 V, 10.4 A, 8-Pin SOT96-1, Reel; Manufacturer: NXP Semiconductors; PartNumber: PHKD13N03LT,518; Channel Type: N; Ciss [typ] (pF): 752; Coss [typ] (pF): 200; ID [max] (A): 10.4; Qr [typ] (nC): 5; VDS [max] (V): 30; VGSth [typ] (V): 1.5; Code_IEC: 76000; DatasheetVersion: Rev. 5; PackageVersion: 03-02-18, 02/2003; PackageReference: SOT96-1; PackageDescription: 8-Pin Plastic Small Outline Package, Body 4.9 x 3.9 mm, Pitch 1.27 mm; Supplier 1: Digi-Key; Supplier Part Number 1: PHKD13N03LT,518-ND; Supplier 2: Mouser; Supplier Part Number 2: 771-PHKD13N03LT518; Packing: Reel; Mounting Technology: Surface Mount; Code_JEDEC: MS-012; ComponentLink1Description: Manufacturer URL; ComponentLink1URL: http://www.nxp.com/; ComponentLink2Description: Datasheet; ComponentLink2URL: http://www.nxp.com/documents/data_sheet/PHKD13N03LT.pdf; ComponentLink3Description: Package Specification; ComponentLink3URL: http://www.nxp.com/documents/outline_drawing/sot096-1_po.pdf
footprint NXP-SOT96-1_N (SOIC, 8-Leads, Body 5x4mm, Pitch 1.27mm, IPC Medium Density)
footprint NXP-SOT96-1_L (SOIC, 8-Leads, Body 5x4mm, Pitch 1.27mm, IPC High Density)
footprint NXP-SOT96-1_M (SOIC, 8-Leads, Body 5x4mm, Pitch 1.27mm, IPC Low Density)
part A pins: 1 S1 "source1", 2 G1 "gate1", 7 D1 "drain1", 8 D1 "drain1"
part B pins: 3 S2 "source2", 4 G2 "gate2", 5 D2 "drain2", 6 D2 "drain2"
part A text: 7, 8
part B text: 5, 6

## PHN203,518
designator Q?
Dual N-Channel TrenchMOS Logic Level FET, 30 V, 6.3 A, 8-Pin SOT96-1, Reel; Manufacturer: NXP Semiconductors; PartNumber: PHN203,518; Channel Type: N; Ciss [typ] (pF): 560; Coss [typ] (pF): 125; ID [max] (A): 6.3; VDS [max] (V): 30; VGSth [typ] (V): 1.5; Code_IEC: 76000; DatasheetVersion: Rev. 05; PackageVersion: 03-02-18, 02/2003; PackageReference: SOT96-1; PackageDescription: 8-Pin Plastic Small Outline Package, Body 4.9 x 3.9 mm, Pitch 1.27 mm; Supplier 1: Digi-Key; Supplier Part Number 1: PHN203,518-ND; Supplier 2: Mouser; Supplier Part Number 2: 771-PHN203518; Packing: Reel; Mounting Technology: Surface Mount; Code_JEDEC: MS-012; ComponentLink1Description: Manufacturer URL; ComponentLink1URL: http://www.nxp.com/; ComponentLink2Description: Datasheet; ComponentLink2URL: http://www.nxp.com/documents/data_sheet/PHN203.pdf; ComponentLink3Description: Package Specification; ComponentLink3URL: http://www.nxp.com/documents/outline_drawing/sot096-1_po.pdf
footprint NXP-SOT96-1_N (SOIC, 8-Leads, Body 5x4mm, Pitch 1.27mm, IPC Medium Density)
footprint NXP-SOT96-1_L (SOIC, 8-Leads, Body 5x4mm, Pitch 1.27mm, IPC High Density)
footprint NXP-SOT96-1_M (SOIC, 8-Leads, Body 5x4mm, Pitch 1.27mm, IPC Low Density)
part A pins: 1 S1 "source1", 2 G1 "gate1", 7 D1 "drain1", 8 D1 "drain1"
part B pins: 3 S2 "source2", 4 G2 "gate2", 5 D2 "drain2", 6 D2 "drain2"
part A text: 7, 8
part B text: 5, 6

## PHN210T,118
designator Q?
Dual N-Channel TrenchMOS Intermediate Level FET, 30 V, 8-Pin SOT96-1, Tape and Reel; Manufacturer: NXP Semiconductors; PartNumber: PHN210T,118; Channel Type: N; Ciss [typ] (pF): 250; Coss [typ] (pF): 88; Packing: Tape & Reel; Qr [typ] (nC): 55; VDS [max] (V): 30; VGSth [typ] (V): 2; Code_IEC: 76000; DatasheetVersion: Rev. 02; PackageVersion: 03-02-18, 02/2003; PackageReference: SOT96-1; PackageDescription: 8-Pin Plastic Small Outline Package, Body 4.9 x 3.9 mm, Pitch 1.27 mm; Supplier 1: Digi-Key; Supplier Part Number 1: 568-11062-2-ND; Supplier 2: Digi-Key; Supplier Part Number 2: 568-11062-1-ND; Supplier 3: Digi-Key; Supplier Part Number 3: 568-11062-6-ND; Supplier 4: Farnell; Supplier Part Number 4: 1758131RL; Supplier 5: Farnell; Supplier Part Number 5: 1758131; Supplier 6: Newark; Supplier Part Number 6: 34R4502; Supplier 7: Newark; Supplier Part Number 7: 70R7453; Supplier 8: Mouser; Supplier Part Number 8: 771-PHN210T118; Mounting Technology: Surface Mount; Code_JEDEC: MS-012; ComponentLink1Description: Manufacturer URL; ComponentLink1URL: http://www.nxp.com/; ComponentLink2Description: Datasheet; ComponentLink2URL: http://www.nxp.com/documents/data_sheet/PHN210T.pdf; ComponentLink3Description: Package Specification; ComponentLink3URL: http://www.nxp.com/documents/outline_drawing/sot096-1_po.pdf
footprint NXP-SOT96-1_N (SOIC, 8-Leads, Body 5x4mm, Pitch 1.27mm, IPC Medium Density)
footprint NXP-SOT96-1_L (SOIC, 8-Leads, Body 5x4mm, Pitch 1.27mm, IPC High Density)
footprint NXP-SOT96-1_M (SOIC, 8-Leads, Body 5x4mm, Pitch 1.27mm, IPC Low Density)
part A pins: 1 S1 "source1", 2 G1 "gate1", 7 D1 "drain1", 8 D1 "drain1"
part B pins: 3 S2 "source2", 4 G2 "gate2", 5 D2 "drain2", 6 D2 "drain2"
part A text: 7, 8
part B text: 5, 6

## PHP9NQ20T,127
designator Q?
N-Channel TrenchMOS Standard Level FET, 200 V, 8.7 A, 3-Pin SOT78, Tube; Manufacturer: NXP Semiconductors; PartNumber: PHP9NQ20T,127; Channel Type: N; Ciss [typ] (pF): 959; Coss [typ] (pF): 93; ID [max] (A): 8.7; Qr [typ] (nC): 500; VDS [max] (V): 200; VGSth [typ] (V): 3; DatasheetVersion: Rev. 03; PackageVersion: 08-06-13, 06/2008; PackageReference: SOT78; PackageDescription: 3-Pin Flange Mount, Vertical Straight Lead, Body 10 x 4.4 mm, Pitch 2.54 mm; Supplier 1: Digi-Key; Supplier Part Number 1: 568-5769-5-ND; Supplier 2: Mouser; Supplier Part Number 2: 771-PHP9NQ20T127; Packing: Tube; Mounting Technology: Through Hole; Code_JEITA: SC-46; Code_JEDEC: 3-lead TO-220AB; ComponentLink1Description: Manufacturer URL; ComponentLink1URL: http://www.nxp.com/; ComponentLink2Description: Datasheet; ComponentLink2URL: http://www.nxp.com/documents/data_sheet/PHP9NQ20T.pdf; ComponentLink3Description: Package Specification; ComponentLink3URL: http://www.nxp.com/documents/outline_drawing/sot078_po.pdf
footprint NXP-SOT78 (FM, 3-Leads, Body 10.3x4.7mm, Pitch 2.54mm)
pins: 1 G "gate", 2 D "drain", 3 S "source"

## PHP18NQ10T,127
designator Q?
N-Channel TrenchMOS Standard Level FET, 100 V, 18 A, 3-Pin SOT78, Tube; Manufacturer: NXP Semiconductors; PartNumber: PHP18NQ10T,127; Channel Type: N; Ciss [typ] (pF): 633; Coss [typ] (pF): 103; ID [max] (A): 18; Qr [typ] (nC): 135; VDS [max] (V): 100; VGSth [typ] (V): 3; DatasheetVersion: Rev. 02; PackageVersion: 08-06-13, 06/2008; PackageReference: SOT78; PackageDescription: 3-Pin Flange Mount, Vertical Straight Lead, Body 10 x 4.4 mm, Pitch 2.54 mm; Supplier 1: Digi-Key; Supplier Part Number 1: 568-5754-5-ND; Supplier 2: Mouser; Supplier Part Number 2: 771-PHP18NQ10T127; Packing: Tube; Mounting Technology: Through Hole; Code_JEITA: SC-46; Code_JEDEC: 3-lead TO-220AB; ComponentLink1Description: Manufacturer URL; ComponentLink1URL: http://www.nxp.com/; ComponentLink2Description: Datasheet; ComponentLink2URL: http://www.nxp.com/documents/data_sheet/PHP18NQ10T.pdf; ComponentLink3Description: Package Specification; ComponentLink3URL: http://www.nxp.com/documents/outline_drawing/sot078_po.pdf
footprint NXP-SOT78 (FM, 3-Leads, Body 10.3x4.7mm, Pitch 2.54mm)
pins: 1 G "gate", 2 D "drain", 3 S "source"

## PHP18NQ11T,127
designator Q?
N-Channel TrenchMOS Standard Level FET, 110 V, 18 A, 3-Pin SOT78, Tube; Manufacturer: NXP Semiconductors; PartNumber: PHP18NQ11T,127; Channel Type: N; Ciss [typ] (pF): 633; Coss [typ] (pF): 103; ID [max] (A): 18; Qr [typ] (nC): 135; VDS [max] (V): 110; VGSth [typ] (V): 3; DatasheetVersion: Rev. 02; PackageVersion: 08-06-13, 06/2008; PackageReference: SOT78; PackageDescription: 3-Pin Flange Mount, Vertical Straight Lead, Body 10 x 4.4 mm, Pitch 2.54 mm; Supplier 1: Digi-Key; Supplier Part Number 1: 568-5755-5-ND; Supplier 2: Mouser; Supplier Part Number 2: 771-PHP18NQ11T127; Packing: Tube; Mounting Technology: Through Hole; Code_JEITA: SC-46; Code_JEDEC: 3-lead TO-220AB; ComponentLink1Description: Manufacturer URL; ComponentLink1URL: http://www.nxp.com/; ComponentLink2Description: Datasheet; ComponentLink2URL: http://www.nxp.com/documents/data_sheet/PHP18NQ11T.pdf; ComponentLink3Description: Package Specification; ComponentLink3URL: http://www.nxp.com/documents/outline_drawing/sot078_po.pdf
footprint NXP-SOT78 (FM, 3-Leads, Body 10.3x4.7mm, Pitch 2.54mm)
pins: 1 G "gate", 2 D "drain", 3 S "source"

## PHP20N06T,127
designator Q?
N-Channel TrenchMOS Standard Level FET, 55 V, 20.3 A, 3-Pin SOT78, Tube; Manufacturer: NXP Semiconductors; PartNumber: PHP20N06T,127; Channel Type: N; Ciss [typ] (pF): 320; Coss [typ] (pF): 92; ID [max] (A): 20.3; Qr [typ] (nC): 120; VDS [max] (V): 55; VGSth [typ] (V): 3; DatasheetVersion: Rev. 02; PackageVersion: 08-06-13, 06/2008; PackageReference: SOT78; PackageDescription: 3-Pin Flange Mount, Vertical Straight Lead, Body 10 x 4.4 mm, Pitch 2.54 mm; Supplier 1: Digi-Key; Supplier Part Number 1: 568-5757-5-ND; Supplier 2: Mouser; Supplier Part Number 2: 771-PHP20N06T127; Packing: Tube; Mounting Technology: Through Hole; Code_JEITA: SC-46; Code_JEDEC: 3-lead TO-220AB; ComponentLink1Description: Manufacturer URL; ComponentLink1URL: http://www.nxp.com/; ComponentLink2Description: Datasheet; ComponentLink2URL: http://www.nxp.com/documents/data_sheet/PHP20N06T.pdf; ComponentLink3Description: Package Specification; ComponentLink3URL: http://www.nxp.com/documents/outline_drawing/sot078_po.pdf
footprint NXP-SOT78 (FM, 3-Leads, Body 10.3x4.7mm, Pitch 2.54mm)
pins: 1 G "gate", 2 D "drain", 3 S "source"

## PHP20NQ20T,127
designator Q?
N-Channel TrenchMOS Standard Level FET, 200 V, 20 A, 3-Pin SOT78, Tube; Manufacturer: NXP Semiconductors; PartNumber: PHP20NQ20T,127; Channel Type: N; Ciss [typ] (pF): 2470; Coss [typ] (pF): 207; ID [max] (A): 20; Qr [typ] (nC): 740; VDS [max] (V): 200; VGSth [typ] (V): 3; DatasheetVersion: Rev. 02; PackageVersion: 08-06-13, 06/2008; PackageReference: SOT78; PackageDescription: 3-Pin Flange Mount, Vertical Straight Lead, Body 10 x 4.4 mm, Pitch 2.54 mm; Supplier 1: Digi-Key; Supplier Part Number 1: 568-5758-5-ND; Supplier 2: Mouser; Supplier Part Number 2: 771-PHP20NQ20T127; Packing: Tube; Mounting Technology: Through Hole; Code_JEITA: SC-46; Code_JEDEC: 3-lead TO-220AB; ComponentLink1Description: Manufacturer URL; ComponentLink1URL: http://www.nxp.com/; ComponentLink2Description: Datasheet; ComponentLink2URL: http://www.nxp.com/documents/data_sheet/PHP20NQ20T.pdf; ComponentLink3Description: Package Specification; ComponentLink3URL: http://www.nxp.com/documents/outline_drawing/sot078_po.pdf
footprint NXP-SOT78 (FM, 3-Leads, Body 10.3x4.7mm, Pitch 2.54mm)
pins: 1 G "gate", 2 D "drain", 3 S "source"

## PHP23NQ11T,127
designator Q?
N-Channel TrenchMOS Standard Level FET, 110 V, 23 A, 3-Pin SOT78, Tube; Manufacturer: NXP Semiconductors; PartNumber: PHP23NQ11T,127; Channel Type: N; Ciss [typ] (pF): 830; Coss [typ] (pF): 140; ID [max] (A): 23; Qr [typ] (nC): 120; VDS [max] (V): 110; VGSth [typ] (V): 3; DatasheetVersion: Rev. 02; PackageVersion: 08-06-13, 06/2008; PackageReference: SOT78; PackageDescription: 3-Pin Flange Mount, Vertical Straight Lead, Body 10 x 4.4 mm, Pitch 2.54 mm; Supplier 1: Digi-Key; Supplier Part Number 1: 568-5759-5-ND; Supplier 2: Mouser; Supplier Part Number 2: 771-PHP23NQ11T127; Packing: Tube; Mounting Technology: Through Hole; Code_JEITA: SC-46; Code_JEDEC: 3-lead TO-220AB; ComponentLink1Description: Manufacturer URL; ComponentLink1URL: http://www.nxp.com/; ComponentLink2Description: Datasheet; ComponentLink2URL: http://www.nxp.com/documents/data_sheet/PHP23NQ11T.pdf; ComponentLink3Description: Package Specification; ComponentLink3URL: http://www.nxp.com/documents/outline_drawing/sot078_po.pdf
footprint NXP-SOT78 (FM, 3-Leads, Body 10.3x4.7mm, Pitch 2.54mm)
pins: 1 G "gate", 2 D "drain", 3 S "source"

## PHP27NQ11T,127
designator Q?
N-Channel TrenchMOS Standard Level FET, 110 V, 27.6 A, 3-Pin SOT78, Tube; Manufacturer: NXP Semiconductors; PartNumber: PHP27NQ11T,127; Channel Type: N; Ciss [typ] (pF): 1240; Coss [typ] (pF): 170; ID [max] (A): 27.6; Qr [typ] (nC): 160; VDS [max] (V): 110; VGSth [typ] (V): 3; DatasheetVersion: Rev. 02; PackageVersion: 08-06-13, 06/2008; PackageReference: SOT78; PackageDescription: 3-Pin Flange Mount, Vertical Straight Lead, Body 10 x 4.4 mm, Pitch 2.54 mm; Supplier 1: Digi-Key; Supplier Part Number 1: 568-5760-5-ND; Supplier 2: Mouser; Supplier Part Number 2: 771-PHP27NQ11T127; Packing: Tube; Mounting Technology: Through Hole; Code_JEITA: SC-46; Code_JEDEC: 3-lead TO-220AB; ComponentLink1Description: Manufacturer URL; ComponentLink1URL: http://www.nxp.com/; ComponentLink2Description: Datasheet; ComponentLink2URL: http://www.nxp.com/documents/data_sheet/PHP27NQ11T.pdf; ComponentLink3Description: Package Specification; ComponentLink3URL: http://www.nxp.com/documents/outline_drawing/sot078_po.pdf
footprint NXP-SOT78 (FM, 3-Leads, Body 10.3x4.7mm, Pitch 2.54mm)
pins: 1 G "gate", 2 D "drain", 3 S "source"